# Altium footprint library PcbLib1.PcbLib: 56 footprints (part 3 of 4)
Each footprint in its own frame and in the unit in brackets; x right, y up, seen from the top. Pads: shape width x height; smd on the part's side, far side on the other; paste and mask are expansions set on the pad; w line width, h text height; cw(c..) or ccw(c..) is an arc to the next point about the centre after c.
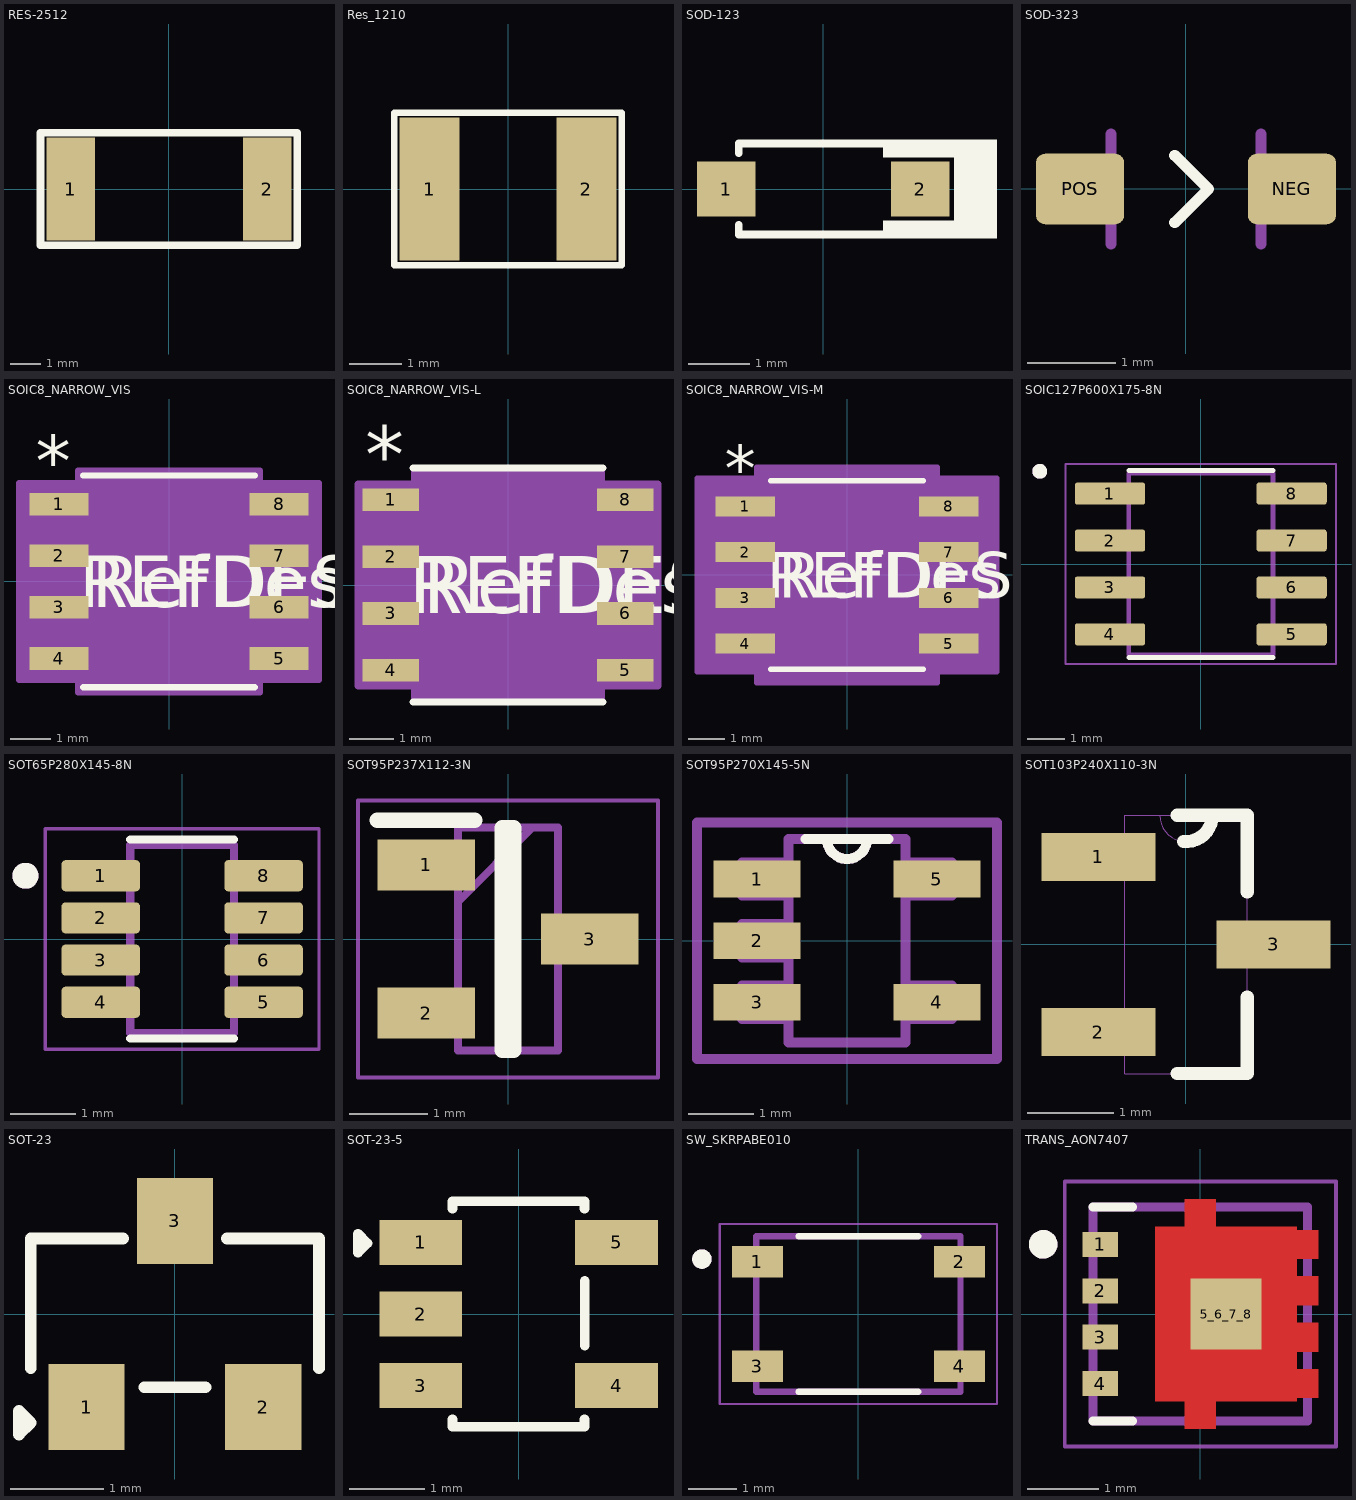
[diagram p2: the footprints below, top view; thin cyan lines are the x and y axes]

## RES-2512 [mm]
pads (2):
  rect 1.6x3.4 smd: 1(-3.25,0) 2(3.25,0)
Top Overlay:
  lines w0.254: -4.242,-1.854 4.237,-1.854 4.237,1.854 -4.242,1.854 -4.242,-1.854
3D body "CircuitWorks-RESISTOR 2512.step": height 0.58, standoff -0.03, extent -3.175,-1.63 3.175,1.63

## Res_1210 [mm]
pads (2):
  rect 1.14x2.72 smd: 1(-1.49,0) 2(1.49,0)
Top Overlay:
  lines w0.127: -2.159,-1.448 -2.159,1.448 2.159,1.448 2.159,-1.448 -2.159,-1.448
3D body "ERJ-14YJ201U.STEP": height 0.7, standoff 0, extent -1.6,-1.25 1.6,1.25

## SOD-123 [mm]
pads (2):
  rect 0.95x0.9 smd: 1(-1.575,0) 2(1.575,0)
Top Overlay:
  rectangle: 0.965,0.508 2.819,0.8
  rectangle: 2.12,-0.787 2.819,0.787
  rectangle: 0.965,-0.8 2.819,-0.508
  lines w0.127: -1.372,-0.584 -1.372,-0.737 0.965,-0.737 ; -1.372,0.584 -1.372,0.737 0.965,0.737
3D body "1N5819HW-7-F--3DModel-STEP-56544.STEP": height 1.5, standoff -0.03, extent -1.825,-0.775 1.825,0.775

## SOD-323 [mm]
pads (2):
  rrect25% 1x0.8 smd: NEG(1.2,0) POS(-1.2,0)
Top Overlay:
  lines w0.127: -0.127,-0.381 0.254,0 -0.127,0.381
Mechanical 13:
  lines w0.127: -0.85,-0.625 -0.85,0.625 ; 0.85,-0.625 0.85,0.625
3D body "step_temp.STEP": height 1.17, standoff 0, extent -1.25,-0.64 1.25,0.64

## SOIC8_NARROW_VIS [mil]
pads (8):
  rect 57.5x22 smd paste+0 mask+0: 1(-107.25,75) 2(-107.25,25) 3(-107.25,-25) 4(-107.25,-75) 5(107.25,-75) 6(107.25,-25) 7(107.25,25) 8(107.25,75)
Top Overlay:
  lines w6: -83.5,-103 83.5,-103 ; -83.5,103 83.5,103
  text "RefDes" at -75,-25 h50
  text "*" at -129.75,92 h50
  text "REFDES" at -87.5,-25 h50
Mechanical 13:
  lines w0: -12,98 ccw(c0,98) 12,98
  lines w1: -122,-85 -78.5,-85 -78.5,-65 -122,-65 -122,-85 ; -122,-35 -78.5,-35 -78.5,-15 -122,-15 -122,-35 ; -122,15 -78.5,15 -78.5,35 -122,35 -122,15 ; -122,65 -78.5,65 -78.5,85 -122,85 -122,65 ; -78.5,-98 -78.5,98 78.5,98 78.5,-98 -78.5,-98 ; 78.5,-85 122,-85 122,-65 78.5,-65 78.5,-85 ; 78.5,-35 122,-35 122,-15 78.5,-15 78.5,-35 ; 78.5,15 122,15 122,35 78.5,35 78.5,15 ; 78.5,65 122,65 122,85 78.5,85 78.5,65
  text "RefDes2" at -87.5,-25 h50
  text "*" at -76,45 h50
Mechanical 15:
  region: -88.5,-96 -146,-96 -146,96 -88.5,96 -88.5,108 88.5,108 88.5,96 146,96 146,-96 88.5,-96 88.5,-108 -88.5,-108
  lines w6: -146,-96 -88.5,-96 -88.5,-108 88.5,-108 88.5,-96 146,-96 146,96 88.5,96 88.5,108 -88.5,108 -88.5,96 -146,96 -146,-96
3D body "SOIC8_NARROW_VIS.step": height 69.09, standoff 0, extent -122.01,-97.99 122.01,97.99

## SOIC8_NARROW_VIS-L [mil]
pads (8):
  rect 49.5x20 smd paste+0 mask+0: 1(-103.25,75) 2(-103.25,25) 3(-103.25,-25) 4(-103.25,-75) 5(103.25,-75) 6(103.25,-25) 7(103.25,25) 8(103.25,75)
Top Overlay:
  lines w6: -83.5,-103 83.5,-103 ; -83.5,103 83.5,103
  text "REFDES" at -87.5,-25 h50
  text "*" at -125.75,90 h50
  text "RefDes" at -75,-25 h50
Mechanical 13:
  lines w0: -12,98 ccw(c0,98) 12,98
  lines w1: -122,-85 -122,-65 -78.5,-65 -78.5,-85 -122,-85 ; -122,-35 -122,-15 -78.5,-15 -78.5,-35 -122,-35 ; -122,15 -122,35 -78.5,35 -78.5,15 -122,15 ; -122,65 -122,85 -78.5,85 -78.5,65 -122,65 ; -78.5,-98 78.5,-98 78.5,98 -78.5,98 -78.5,-98 ; 78.5,-85 78.5,-65 122,-65 122,-85 78.5,-85 ; 78.5,-35 78.5,-15 122,-15 122,-35 78.5,-35 ; 78.5,15 78.5,35 122,35 122,15 78.5,15 ; 78.5,65 78.5,85 122,85 122,65 78.5,65
  text "*" at -76,45 h50
  text "RefDes2" at -87.5,-25 h50
Mechanical 15:
  region: -82.5,-89 -132,-89 -132,89 -82.5,89 -82.5,102 82.5,102 82.5,89 132,89 132,-89 82.5,-89 82.5,-102 -82.5,-102
  lines w6: -132,-89 -132,89 -82.5,89 -82.5,102 82.5,102 82.5,89 132,89 132,-89 82.5,-89 82.5,-102 -82.5,-102 -82.5,-89 -132,-89
3D body "SOIC8_NARROW_VIS.step": height 69.09, standoff 0, extent -122.01,-97.99 122.01,97.99

## SOIC8_NARROW_VIS-M [mil]
pads (8):
  rect 65.5x22 smd paste+0 mask+0: 1(-111.25,75) 2(-111.25,25) 3(-111.25,-25) 4(-111.25,-75) 5(111.25,-75) 6(111.25,-25) 7(111.25,25) 8(111.25,75)
Top Overlay:
  lines w6: -83.5,-103 83.5,-103 ; -83.5,103 83.5,103
  text "RefDes" at -75,-25 h50
  text "*" at -133.75,92 h50
  text "REFDES" at -87.5,-25 h50
Mechanical 13:
  lines w0: -12,98 ccw(c0,98) 12,98
  lines w1: -122,-85 -78.5,-85 -78.5,-65 -122,-65 -122,-85 ; -122,-35 -78.5,-35 -78.5,-15 -122,-15 -122,-35 ; -122,15 -78.5,15 -78.5,35 -122,35 -122,15 ; -122,65 -78.5,65 -78.5,85 -122,85 -122,65 ; -78.5,-98 -78.5,98 78.5,98 78.5,-98 -78.5,-98 ; 78.5,-85 122,-85 122,-65 78.5,-65 78.5,-85 ; 78.5,-35 122,-35 122,-15 78.5,-15 78.5,-35 ; 78.5,15 122,15 122,35 78.5,35 78.5,15 ; 78.5,65 122,65 122,85 78.5,85 78.5,65
  text "RefDes2" at -87.5,-25 h50
  text "*" at -76,45 h50
Mechanical 15:
  region: -98.5,-106 -164,-106 -164,106 -98.5,106 -98.5,118 98.5,118 98.5,106 164,106 164,-106 98.5,-106 98.5,-118 -98.5,-118
  lines w6: -164,-106 -98.5,-106 -98.5,-118 98.5,-118 98.5,-106 164,-106 164,106 98.5,106 98.5,118 -98.5,118 -98.5,106 -164,106 -164,-106
3D body "SOIC8_NARROW_VIS.step": height 69.09, standoff 0, extent -122.01,-97.99 122.01,97.99

## SOIC127P600X175-8N [mm]
pads (8):
  rrect25% 1.9x0.6 smd paste+0 mask+0.102: 1(-2.455,1.905) 2(-2.455,0.635) 3(-2.455,-0.635) 4(-2.455,-1.905) 5(2.455,-1.905) 6(2.455,-0.635) 7(2.455,0.635) 8(2.455,1.905)
Top Overlay:
  circle w0.2: c-4.355,2.505 r0.1
  lines w0.127: -1.95,-2.525 1.95,-2.525 ; -1.95,2.525 1.95,2.525
Mechanical 13:
  circle w0.2: c-4.355,2.505 r0.1
  lines w0.127: -1.95,-2.45 -1.95,2.45 1.95,2.45 1.95,-2.45 -1.95,-2.45
Mechanical 15:
  lines w0.05: -3.655,-2.7 -3.655,2.7 3.655,2.7 3.655,-2.7 -3.655,-2.7
3D body "step_temp.STEP": height 1.75, standoff 0, extent -3,-2.45 3,2.45

## SOT65P280X145-8N [mm]
pads (8):
  rrect25% 1.21x0.48 smd: 1(-1.255,0.975) 2(-1.255,0.325) 3(-1.255,-0.325) 4(-1.255,-0.975) 5(1.255,-0.975) 6(1.255,-0.325) 7(1.255,0.325) 8(1.255,0.975)
Top Overlay:
  circle w0.2: c-2.415,0.975 r0.1
  lines w0.127: -0.8,-1.535 0.8,-1.535 ; -0.8,1.535 0.8,1.535
Mechanical 13:
  circle w0.2: c-2.415,0.975 r0.1
  lines w0.127: -0.8,-1.45 0.8,-1.45 0.8,1.45 -0.8,1.45 -0.8,-1.45
Mechanical 15:
  lines w0.05: -2.11,-1.7 2.11,-1.7 2.11,1.7 -2.11,1.7 -2.11,-1.7
3D body "step_temp.STEP": height 1.45, standoff 0, extent -1.4,-1.45 1.4,1.45

## SOT95P237X112-3N [mm]
pads (3):
  rect 1.25x0.65 smd: 1(-1.05,0.95) 2(-1.05,-0.95) 3(1.05,0)
Top Overlay:
  lines w0.2: -1.675,1.525 -0.425,1.525 ; -0.075,-1.43 -0.075,1.43 0.075,1.43 0.075,-1.43 -0.075,-1.43
Mechanical 13:
  lines w0.05: -1.925,-1.775 -1.925,1.775 1.925,1.775 1.925,-1.775 -1.925,-1.775
  lines w0.1: -0.64,0.48 0.31,1.43 ; -0.64,-1.43 -0.64,1.43 0.64,1.43 0.64,-1.43 -0.64,-1.43

## SOT95P270X145-5N [mil]
pads (5):
  rect 52x22 smd: 1(-54,37) 2(-54,0) 3(-54,-37) 4(54,-37) 5(54,37)
Top Overlay:
  lines w6: -25,61 -12,61 ; 25,61 12,61 ; -12,61 ccw(c0,61) 12,61 ; -12,61 12,61
Mechanical 13:
  lines w6: -35,-47 -63,-47 -63,-27 -35,-27 ; -35,-47 -35,-27 ; -35,-47 -35,-61 35,-61 35,-47 ; -35,-27 -35,-10 ; -35,-10 -63,-10 -63,10 -35,10 ; -35,-10 -35,10 ; -35,10 -35,27 ; -35,27 -63,27 -63,47 -35,47 ; -35,27 -35,47 ; -35,47 -35,61 -12,61 ; -12,61 ccw(c0,61) 12,61 ; -12,61 12,61 ; 12,61 35,61 35,47 ; 35,-47 63,-47 63,-27 35,-27 ; 35,-47 35,-27 ; 35,-27 35,27 ; 35,27 63,27 63,47 35,47 ; 35,27 35,47
Mechanical 15:
  lines w6: -90,-71 -90,71 90,71 90,-71 -90,-71
3D body "MCP6021T-E_OT.STEP": height 57.09, standoff 0, extent -53.15,-57.09 53.15,57.09

## SOT103P240X110-3N [mil]
pads (3):
  rect 52x22 smd: 1(-40,40) 2(-40,-40) 3(40,0)
Top Overlay:
  lines w6: -4,-59 28,-59 28,-24 ; -4,59 28,59 28,24 ; -1.04,47 ccw(c0,58.96) 12,58.96
Mechanical 13:
  lines w0: -12,59 ccw(c0,59) 12,59 ; -49,-50 -49,-30 -28,-30 -28,-50 -49,-50 ; -49,30 -49,50 -28,50 -28,30 -49,30 ; -28,-59 28,-59 28,59 -28,59 -28,-59 ; 28,-10 28,10 49,10 49,-10 28,-10
3D body "step_temp.STEP": height 45.28, standoff 0, extent -47.24,-57.09 47.24,57.09

## SOT-23 [mm] "TRANS NPN 40V 0.6A SOT23"
pads (3):
  rect 0.82x0.92 smd: 1(-0.95,-1) 2(0.95,-1) 3(0,1)
Top Overlay:
  lines w0.127: -1.549,-0.584 -1.549,0.813 -0.559,0.813 ; -0.33,-0.787 0.33,-0.787 ; 0.559,0.813 1.549,0.813 1.549,-0.584 ; -1.676,-1.295 -1.676,-1.041 -1.549,-1.168 -1.676,-1.295
3D body "CircuitWorks-SOT-23.step": height 1.05, standoff -0.05, extent -1.5,-1.25 1.5,1.25

## SOT-23-5 [mm]
pads (5):
  rect 1.1x0.6 smd: 1(-1.3,0.95) 2(-1.3,0) 3(-1.3,-0.95) 4(1.3,-0.95) 5(1.3,0.95)
Top Overlay:
  lines w0.127: -0.879,-1.399 -0.879,-1.499 0.874,-1.499 0.874,-1.399 ; -0.879,1.399 -0.879,1.499 0.874,1.499 0.874,1.399 ; 0.88,-0.418 0.88,0.44 ; -2.134,0.813 -2.007,0.94 -2.134,1.067 -2.134,0.813
3D body "SN74LV1T34DBVR.STEP": height 1.45, standoff 0, extent -1.4,-1.45 1.4,1.45

## SW_SKRPABE010 [mm]
height 2.5
pads (4):
  rect 1.05x0.65 smd: 1(-2.075,1.075) 2(2.075,1.075) 3(-2.075,-1.075) 4(2.075,-1.075)
Top Overlay:
  circle w0.2: c-3.218,1.13 r0.1
  lines w0.127: -1.23,-1.6 1.23,-1.6 ; -1.23,1.6 1.23,1.6
Mechanical 13:
  circle w0.2: c-3.218,1.13 r0.1
  lines w0.127: -2.1,-1.6 -2.1,1.6 2.1,1.6 2.1,-1.6 -2.1,-1.6
Mechanical 15:
  lines w0.05: -2.85,-1.85 2.85,-1.85 2.85,1.85 -2.85,1.85 -2.85,-1.85
3D body "step_temp.STEP": height 2.5, standoff 0, extent -2.3,-1.6 2.3,1.6

## TRANS_AON7407 [mm]
height 0.9
pads (5):
  rect 0.5x0.35 smd: 1(-1.4,0.975) 2(-1.4,0.325) 3(-1.4,-0.325) 4(-1.4,-0.975)
  rect 1x1 smd paste-1 mask+0: 5_6_7_8(0.36,0)
Top Layer:
  region: 0.215,1.225 1.35,1.225 1.35,1.175 1.65,1.175 1.65,0.775 1.35,0.775 1.35,0.525 1.65,0.525 1.65,0.125 1.35,0.125 1.35,-0.125 1.65,-0.125 1.65,-0.525 1.35,-0.525 1.35,-0.775 1.65,-0.775 1.65,-1.175 1.35,-1.175 1.35,-1.225 0.215,-1.225 0.215,-1.605 -0.215,-1.605 -0.215,-1.225 -0.63,-1.225 -0.63,1.225 -0.215,1.225 -0.215,1.605 0.215,1.605
Top Overlay:
  circle w0.2: c-2.2,0.975 r0.1
  lines w0.127: -1.5,-1.5 -0.95,-1.5 ; -1.5,1.5 -0.95,1.5
Top Paste:
  region: 0.215,-1.605 -0.215,-1.605 -0.215,-1.225 0.215,-1.225
  region: 1.65,-1.175 1.35,-1.175 1.35,-0.775 1.65,-0.775
  region: 1.65,-0.525 1.35,-0.525 1.35,-0.125 1.65,-0.125
  region: 1.65,0.125 1.35,0.125 1.35,0.525 1.65,0.525
  region: 1.65,0.775 1.35,0.775 1.35,1.175 1.65,1.175
  region: 0.215,1.225 -0.215,1.225 -0.215,1.605 0.215,1.605
  region: 0.985,-0.775 -0.265,-0.775 -0.265,0.775 0.985,0.775
Top Solder:
  region: 0.315,1.325 1.45,1.325 1.45,1.275 1.75,1.275 1.75,-1.25 1.45,-1.25 1.45,-1.325 0.315,-1.325 0.315,-1.705 -0.315,-1.705 -0.315,-1.325 -0.73,-1.325 -0.73,1.325 -0.315,1.325 -0.315,1.705 0.315,1.705
Mechanical 13:
  circle w0.2: c-2.2,0.975 r0.1
  lines w0.127: -1.5,-1.5 -1.5,1.5 1.5,1.5 1.5,-1.5 -1.5,-1.5
Mechanical 15:
  lines w0.05: -1.9,-1.855 -1.9,1.855 1.9,1.855 1.9,-1.855 -1.9,-1.855
3D body "step_temp.STEP": height 0.9, standoff 0, extent -1.6,-1.55 1.6,1.55